# Altium schematic symbol library BM04B-SRSS-TB(LF)(SN).SchLib: 1 symbol
Pins are listed as number, name and electrical type; pins without a type are passive.

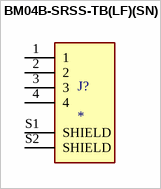
[diagram p0: symbol BM04B-SRSS-TB(LF)(SN)]

## BM04B-SRSS-TB(LF)(SN)
designator J?
BM04B Series 1 mm Pitch 4 Position SMT Single Row Top Entry Shrouded Header; MP: BM04B-SRSS-TB(LF)(SN); MF: {'manufacturer': u'JST Sales'}; Availability: Unavailable; Price: None; Value: *; Package: None
footprint CONN_BM04B-SRSS-TB(LF)(SN)
pins: 1, 2, 3, 4, S1 SHIELD, S2 SHIELD